# Altium schematic symbol library nxp-pwr-mgmt.SchLib: 2 symbols
Pins are listed as number, name and electrical type; pins without a type are passive.

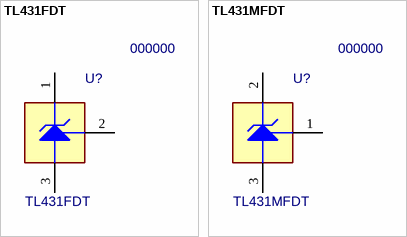
[diagram p0: symbols TL431FDT to TL431MFDT]

## TL431FDT
designator U?, comment 000000  value TL431FDT
Adjustable Precision Shunt Regulator; MFG: NXP; PN: 000000; Package: SOT23; ExtraInfo: *
footprint SOT-23 (SOT23, 3-Leads, Body 3.0x2.8mm (max), Pitch 0.95mm, IPC High Density)
footprint SOT-23H (SOT23, 3-Leads, Body 3.0x2.5mm (max), Pitch 0.95mm, IPC High Density)
pins: 1 CATHODE (power), 2 REF, 3 ANODE (power)

## TL431MFDT
designator U?, comment 000000  value TL431MFDT
Adjustable Precision Shunt Regulator; MFG: NXP; PN: 000000; Package: SOT23; ExtraInfo: *
footprint SOT-23 (SOT23, 3-Leads, Body 3.0x2.8mm (max), Pitch 0.95mm, IPC High Density)
footprint SOT-23H (SOT23, 3-Leads, Body 3.0x2.5mm (max), Pitch 0.95mm, IPC High Density)
pins: 1 REF, 2 CATHODE (power), 3 ANODE (power)